# EAGLE library part BD6221F-E2 (library ICs)
ROHM BD6221F-E2 H-Bridge Driver, 6V to 15V supply, 1A/1 Output, SOP-8
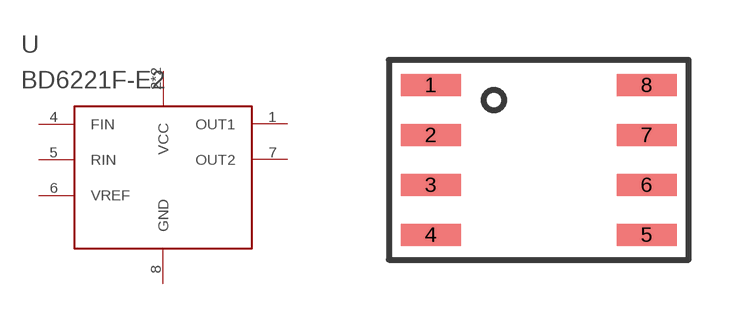
[diagram p156: symbol with the pads of SO8; footprint SO8]

Designator prefix -

## BD6221F-E2 (FARNELL: 1716261)  [SO8]
1  OUT1
2  VCC
3  VCC
4  FIN
5  RIN
6  VREF
7  OUT2
8  GND

## Footprint SO8 (pad centres in mm)
smd 1.5 x 0.55: 1 -2.7,1.875; 2 -2.7,0.625; 3 -2.7,-0.625; 4 -2.7,-1.875; 5 2.7,-1.875; 6 2.7,-0.625; 7 2.7,0.625; 8 2.7,1.875